# Altium footprint library SMD Resistors 0603.PcbLib: 67 footprints (part 1 of 5)
Each footprint in its own frame and in the unit in brackets; x right, y up, seen from the top. Pads: shape width x height; smd on the part's side, far side on the other; paste and mask are expansions set on the pad; w line width, h text height; cw(c..) or ccw(c..) is an arc to the next point about the centre after c.
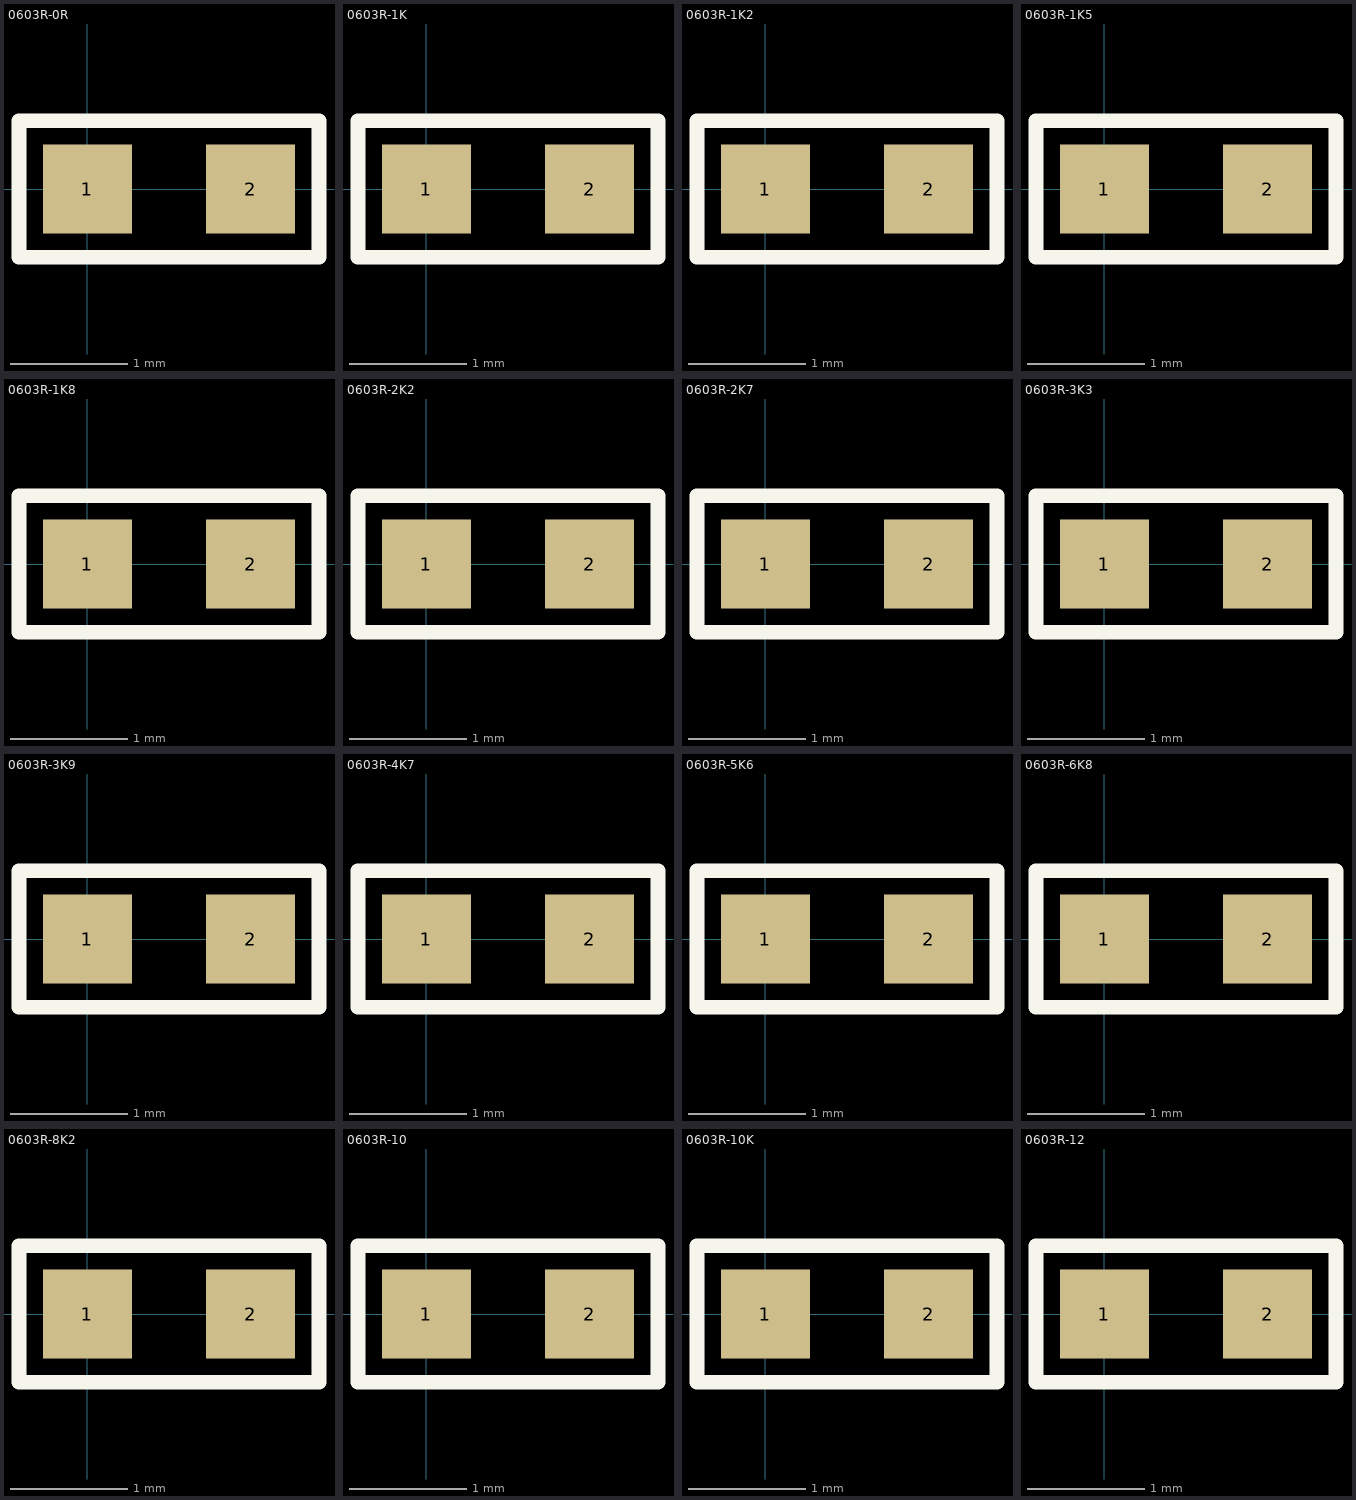
[diagram p0: the footprints below, top view; thin cyan lines are the x and y axes]

## 0603R-0R [mil] "RESISTOR 0603"
pads (2):
  rect 30x30 smd: 1(0,0) 2(55,0)
Top Overlay:
  lines w5: -23,-23 78,-23 78,23 -23,23 -23,-23
3D body: height 19, standoff 0, extent -4,-15 5,15
3D body: height 19, standoff 0, extent 50,-15 59,15
3D body: height 19, standoff 18, extent 5,-13 50,13
3D body: height 18, standoff 0, extent -3,-14 58,14
3D body: height 20, standoff 19, extent 21.5,-4.5 26.5,5.5
3D body: height 20, standoff 19, extent 28.5,-4.5 33.5,5.5

## 0603R-1K [mil] "RESISTOR 0603"
pads (2):
  rect 30x30 smd: 1(0,0) 2(55,0)
Top Overlay:
  lines w5: -23,-23 -23,23 78,23 78,-23 -23,-23
3D body: height 20, standoff 19, extent 32.5,-5 37.5,5
3D body: height 20, standoff 19, extent 25,-5 30,5
3D body: height 18, standoff 0, extent -3,-14 58,14
3D body: height 19, standoff 18, extent 5,-13 50,13
3D body: height 19, standoff 0, extent 50,-15 59,15
3D body: height 19, standoff 0, extent -4,-15 5,15
3D body: height 20, standoff 19, extent 17.5,-5 22.5,5

## 0603R-1K2 [mil] "RESISTOR 0603"
pads (2):
  rect 30x30 smd: 1(0,0) 2(55,0)
Top Overlay:
  lines w5: -23,-23 -23,23 78,23 78,-23 -23,-23
3D body: height 20, standoff 19, extent 32.5,-5 37.5,5
3D body: height 20, standoff 19, extent 25,-5 30,5
3D body: height 18, standoff 0, extent -3,-14 58,14
3D body: height 19, standoff 18, extent 5,-13 50,13
3D body: height 19, standoff 0, extent 50,-15 59,15
3D body: height 19, standoff 0, extent -4,-15 5,15
3D body: height 20, standoff 19, extent 17.5,-5 22.5,5

## 0603R-1K5 [mil] "RESISTOR 0603"
pads (2):
  rect 30x30 smd: 1(0,0) 2(55,0)
Top Overlay:
  lines w5: -23,-23 -23,23 78,23 78,-23 -23,-23
3D body: height 20, standoff 19, extent 32.5,-5 37.5,5
3D body: height 18, standoff 0, extent -3,-14 58,14
3D body: height 19, standoff 18, extent 5,-13 50,13
3D body: height 19, standoff 0, extent 50,-15 59,15
3D body: height 19, standoff 0, extent -4,-15 5,15
3D body: height 20, standoff 19, extent 17.5,-5 22.5,5
3D body: height 20, standoff 19, extent 25,-5 30,5

## 0603R-1K8 [mil] "RESISTOR 0603"
pads (2):
  rect 30x30 smd: 1(0,0) 2(55,0)
Top Overlay:
  lines w5: -23,-23 -23,23 78,23 78,-23 -23,-23
3D body: height 20, standoff 19, extent 32.5,-5 37.5,5
3D body: height 20, standoff 19, extent 17.5,-5 22.5,5
3D body: height 18, standoff 0, extent -3,-14 58,14
3D body: height 19, standoff 18, extent 5,-13 50,13
3D body: height 19, standoff 0, extent 50,-15 59,15
3D body: height 19, standoff 0, extent -4,-15 5,15
3D body: height 20, standoff 19, extent 25,-5 30,5

## 0603R-2K2 [mil] "RESISTOR 0603"
pads (2):
  rect 30x30 smd: 1(0,0) 2(55,0)
Top Overlay:
  lines w5: -23,-23 78,-23 78,23 -23,23 -23,-23
3D body: height 19, standoff 0, extent -4,-15 5,15
3D body: height 19, standoff 0, extent 50,-15 59,15
3D body: height 19, standoff 18, extent 5,-13 50,13
3D body: height 18, standoff 0, extent -3,-14 58,14
3D body: height 20, standoff 19, extent 25,-5 30,5
3D body: height 20, standoff 19, extent 32.5,-5 37.5,5
3D body: height 20, standoff 19, extent 17.5,-5 22.5,5

## 0603R-2K7 [mil] "RESISTOR 0603"
pads (2):
  rect 30x30 smd: 1(0,0) 2(55,0)
Top Overlay:
  lines w5: -23,-23 -23,23 78,23 78,-23 -23,-23
3D body: height 18, standoff 0, extent -3,-14 58,14
3D body: height 19, standoff 18, extent 5,-13 50,13
3D body: height 19, standoff 0, extent 50,-15 59,15
3D body: height 19, standoff 0, extent -4,-15 5,15
3D body: height 20, standoff 19, extent 25,-5 30,5
3D body: height 20, standoff 19, extent 17.5,-5 22.5,5
3D body: height 20, standoff 19, extent 32.5,-5 37.5,5

## 0603R-3K3 [mil] "RESISTOR 0603"
pads (2):
  rect 30x30 smd: 1(0,0) 2(55,0)
Top Overlay:
  lines w5: -23,-23 -23,23 78,23 78,-23 -23,-23
3D body: height 20, standoff 19, extent 32.5,-5 37.5,5
3D body: height 20, standoff 19, extent 17.5,-5 22.5,5
3D body: height 18, standoff 0, extent -3,-14 58,14
3D body: height 19, standoff 18, extent 5,-13 50,13
3D body: height 19, standoff 0, extent 50,-15 59,15
3D body: height 19, standoff 0, extent -4,-15 5,15
3D body: height 20, standoff 19, extent 25,-5 30,5

## 0603R-3K9 [mil] "RESISTOR 0603"
pads (2):
  rect 30x30 smd: 1(0,0) 2(55,0)
Top Overlay:
  lines w5: -23,-23 -23,23 78,23 78,-23 -23,-23
3D body: height 20, standoff 19, extent 25,-5 30,5
3D body: height 18, standoff 0, extent -3,-14 58,14
3D body: height 19, standoff 18, extent 5,-13 50,13
3D body: height 19, standoff 0, extent 50,-15 59,15
3D body: height 19, standoff 0, extent -4,-15 5,15
3D body: height 20, standoff 19, extent 17.5,-5 22.5,5
3D body: height 20, standoff 19, extent 32.5,-5 37.5,5

## 0603R-4K7 [mil] "RESISTOR 0603"
pads (2):
  rect 30x30 smd: 1(0,0) 2(55,0)
Top Overlay:
  lines w5: -23,-23 -23,23 78,23 78,-23 -23,-23
3D body: height 18, standoff 0, extent -3,-14 58,14
3D body: height 19, standoff 18, extent 5,-13 50,13
3D body: height 19, standoff 0, extent 50,-15 59,15
3D body: height 19, standoff 0, extent -4,-15 5,15
3D body: height 20, standoff 19, extent 17.5,-5 22.5,5
3D body: height 20, standoff 19, extent 25,-5 30,5
3D body: height 20, standoff 19, extent 32.5,-5 37.5,5

## 0603R-5K6 [mil] "RESISTOR 0603"
pads (2):
  rect 30x30 smd: 1(0,0) 2(55,0)
Top Overlay:
  lines w5: -23,-23 -23,23 78,23 78,-23 -23,-23
3D body: height 20, standoff 19, extent 32.5,-5 37.5,5
3D body: height 18, standoff 0, extent -3,-14 58,14
3D body: height 19, standoff 18, extent 5,-13 50,13
3D body: height 19, standoff 0, extent 50,-15 59,15
3D body: height 19, standoff 0, extent -4,-15 5,15
3D body: height 20, standoff 19, extent 17.5,-5 22.5,5
3D body: height 20, standoff 19, extent 25,-5 30,5

## 0603R-6K8 [mil] "RESISTOR 0603"
pads (2):
  rect 30x30 smd: 1(0,0) 2(55,0)
Top Overlay:
  lines w5: -23,-23 -23,23 78,23 78,-23 -23,-23
3D body: height 18, standoff 0, extent -3,-14 58,14
3D body: height 19, standoff 18, extent 5,-13 50,13
3D body: height 19, standoff 0, extent 50,-15 59,15
3D body: height 19, standoff 0, extent -4,-15 5,15
3D body: height 20, standoff 19, extent 25.25,-5.25 30.25,4.75
3D body: height 20, standoff 19, extent 17.5,-5 22.5,5
3D body: height 20, standoff 19, extent 32.5,-5 37.5,5

## 0603R-8K2 [mil] "RESISTOR 0603"
pads (2):
  rect 30x30 smd: 1(0,0) 2(55,0)
Top Overlay:
  lines w5: -23,-23 -23,23 78,23 78,-23 -23,-23
3D body: height 20, standoff 19, extent 32.5,-5 37.5,5
3D body: height 20, standoff 19, extent 25,-5 30,5
3D body: height 18, standoff 0, extent -3,-14 58,14
3D body: height 19, standoff 18, extent 5,-13 50,13
3D body: height 19, standoff 0, extent 50,-15 59,15
3D body: height 19, standoff 0, extent -4,-15 5,15
3D body: height 20, standoff 19, extent 17.5,-5 22.5,5

## 0603R-10 [mil] "RESISTOR 0603"
pads (2):
  rect 30x30 smd: 1(0,0) 2(55,0)
Top Overlay:
  lines w5: -23,-23 78,-23 78,23 -23,23 -23,-23
3D body: height 20, standoff 19, extent 32.5,-5 37.5,5
3D body: height 20, standoff 19, extent 17.5,-5 22.5,5
3D body: height 19, standoff 0, extent -4,-15 5,15
3D body: height 19, standoff 0, extent 50,-15 59,15
3D body: height 19, standoff 18, extent 5,-13 50,13
3D body: height 18, standoff 0, extent -3,-14 58,14
3D body: height 20, standoff 19, extent 25,-5 30,5

## 0603R-10K [mil] "RESISTOR 0603"
pads (2):
  rect 30x30 smd: 1(0,0) 2(55,0)
Top Overlay:
  lines w5: -23,-23 -23,23 78,23 78,-23 -23,-23
3D body: height 20, standoff 19, extent 32.5,-5 37.5,5
3D body: height 20, standoff 19, extent 25,-5 30,5
3D body: height 18, standoff 0, extent -3,-14 58,14
3D body: height 19, standoff 18, extent 5,-13 50,13
3D body: height 19, standoff 0, extent 50,-15 59,15
3D body: height 19, standoff 0, extent -4,-15 5,15
3D body: height 20, standoff 19, extent 17.5,-5 22.5,5

## 0603R-12 [mil] "RESISTOR 0603"
pads (2):
  rect 30x30 smd: 1(0,0) 2(55,0)
Top Overlay:
  lines w5: -23,-23 78,-23 78,23 -23,23 -23,-23
3D body: height 20, standoff 19, extent 17.5,-5 22.5,5
3D body: height 19, standoff 0, extent -4,-15 5,15
3D body: height 19, standoff 0, extent 50,-15 59,15
3D body: height 19, standoff 18, extent 5,-13 50,13
3D body: height 18, standoff 0, extent -3,-14 58,14
3D body: height 20, standoff 19, extent 25,-5 30,5
3D body: height 20, standoff 19, extent 32.5,-5 37.5,5